# EAGLE library part TS5A3157 (library pimoroni)
TS5A3157: 10-Ω SPDT ANALOG SWITCH The TS5A3157 is a single-pole double-throw (SPDT) analog switch that is designed to operate from 1.65V to 5.5V. This device can handle both digital and analog signals, and signals up to V+ can be transmitted in either direction.
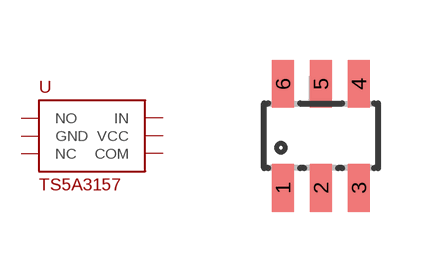
[diagram p15: symbol with the pads of SOT23-6; footprint SOT23-6]

Designator prefix -

## TS5A3157  [SOT23-6]
1  NO
2  GND
3  NC
4  COM
5  VCC
6  IN

## Footprint SOT23-6 (pad centres in mm)
smd 0.55 x 1.2: 1 -0.95,-1.3; 2 0,-1.3; 3 0.95,-1.3; 4 0.95,1.3; 5 0,1.3; 6 -0.95,1.3